# Altium schematic symbol library SCH - BATTERY MGMT - ONSEMI LC709203FQH-01TWG.SCHLIB: 1 symbol
Pins are listed as number, name and electrical type; pins without a type are passive.

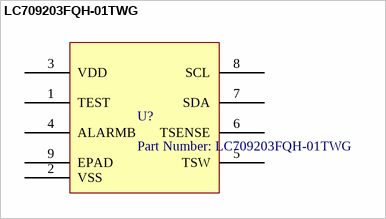
[diagram p0: symbol LC709203FQH-01TWG]

## LC709203FQH-01TWG
designator U?, comment Part Number: LC709203FQH-01TWG
No Description Available; Vendor: ON Semiconductor; Copyright: Copyright (C) 2016 Accelerated Designs. All rights reserved; Manufacturer_Part_Number: LC709203FQH-01TWG; RefDes: RefDes; Type: DEV; Value: Value
pins: 1 TEST, 2 VSS (power), 3 VDD (power), 4 ALARMB, 5 TSW, 6 TSENSE, 7 SDA, 8 SCL, 9 EPAD